# EAGLE library part L6204 (library l293dd)
DUAL DMOS FULL BRIDGE DRIVER
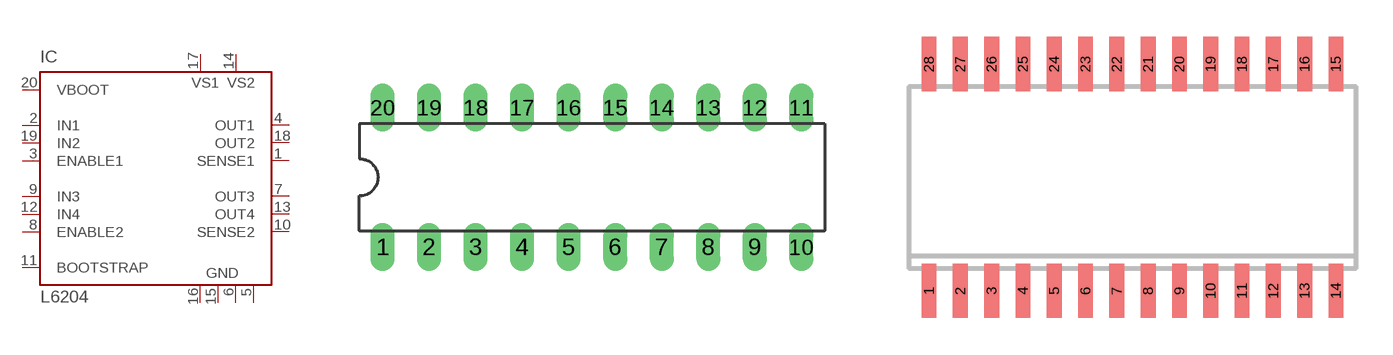
[diagram p20: symbol with the pads of DIL20; footprints DIL20, SO28]

Designator prefix IC

## L6204 (MPN: E-L6204; OC_FARNELL: 1564367; OC_NEWARK: 56P7372)  [DIL20]
1  SENSE1  in
2  IN1  in
3  ENABLE1  in
4  OUT1  out
5  GND  pwr
6  GND  pwr
7  OUT3  out
8  ENABLE2  in
9  IN3  in
10  SENSE2  in
11  BOOTSTRAP  in
12  IN4  in
13  OUT4  out
14  VS2  pwr
15  GND  pwr
16  GND  pwr
17  VS1  pwr
18  OUT2  out
19  IN2  in
20  VBOOT  in

## L6204D (MPN: L6204D; OC_FARNELL: unknown; OC_NEWARK: 37M3485)  [SO28]
1  SENSE1  in
2  IN1  in
3  ENABLE1  in
6  OUT1  out
7  GND  pwr
8  GND  pwr
9  OUT3  out
12  ENABLE2  in
13  IN3  in
14  SENSE2  in
15  BOOTSTRAP  in
16  IN4  in
17  OUT4  out
20  VS2  pwr
21  GND  pwr
22  GND  pwr
23  VS1  pwr
26  OUT2  out
27  IN2  in
28  VBOOT  in

## Footprint DIL20 (pad centres in mm)
Dual In Line Package
drill 0.813 long: 1 -11.43,-3.81; 2 -8.89,-3.81; 3 -6.35,-3.81; 4 -3.81,-3.81; 5 -1.27,-3.81; 6 1.27,-3.81; 7 3.81,-3.81; 8 6.35,-3.81; 9 8.89,-3.81; 10 11.43,-3.81; 11 11.43,3.81; 12 8.89,3.81; 13 6.35,3.81; 14 3.81,3.81; 15 1.27,3.81; 16 -1.27,3.81; 17 -3.81,3.81; 18 -6.35,3.81; 19 -8.89,3.81; 20 -11.43,3.81

## Footprint SO28 (pad centres in mm)
SMALL OUTLINE INTEGRATED CIRCUIT wide body 7.5 mm/JEDEC MO-119AB
smd 0.6 x 2.2: 1 -8.255,-4.6; 2 -6.985,-4.6; 3 -5.715,-4.6; 4 -4.445,-4.6; 5 -3.175,-4.6; 6 -1.905,-4.6; 7 -0.635,-4.6; 8 0.635,-4.6; 9 1.905,-4.6; 10 3.175,-4.6; 11 4.445,-4.6; 12 5.715,-4.6; 13 6.985,-4.6; 14 8.255,-4.6; 15 8.255,4.6; 16 6.985,4.6; 17 5.715,4.6; 18 4.445,4.6; 19 3.175,4.6; 20 1.905,4.6; 21 0.635,4.6; 22 -0.635,4.6; 23 -1.905,4.6; 24 -3.175,4.6; 25 -4.445,4.6; 26 -5.715,4.6; 27 -6.985,4.6; 28 -8.255,4.6